# EAGLE library part ARDUINO_NANO (library Arduino_Nano)
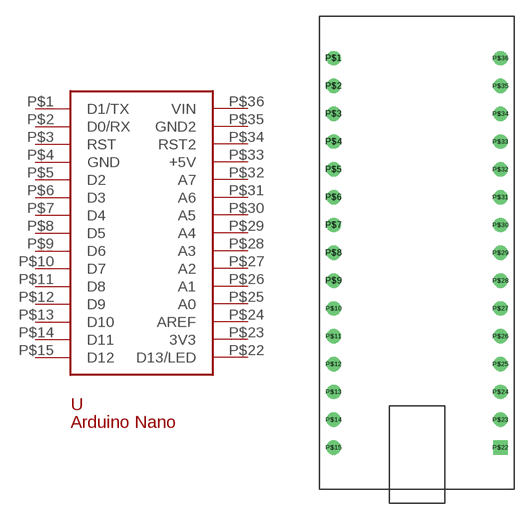
[diagram p0: symbol with the pads of ARDUINO_NANO; footprint ARDUINO_NANO]

Designator prefix -

## ARDUINO_NANOARDUINO_NANO  [ARDUINO_NANO]
P$1  D1/TX
P$2  D0/RX
P$3  RST
P$4  GND  pwr
P$5  D2
P$6  D3
P$7  D4
P$8  D5
P$9  D6
P$10  D7
P$11  D8
P$12  D9
P$13  D10
P$14  D11
P$15  D12
P$22  D13/LED
P$23  3V3  pwr
P$24  AREF
P$25  A0
P$26  A1
P$27  A2
P$28  A3
P$29  A4
P$30  A5
P$31  A6
P$32  A7
P$33  +5V  pwr
P$34  RST2
P$35  GND2  pwr
P$36  VIN

## Footprint ARDUINO_NANO (pad centres in mm)
drill 0.8: P$1 -7.62,16.51; P$2 -7.62,13.97; P$3 -7.62,11.43; P$4 -7.62,8.89; P$5 -7.62,6.35; P$6 -7.62,3.81; P$7 -7.62,1.27; P$8 -7.62,-1.27; P$9 -7.62,-3.81; P$10 -7.62,-6.35; P$11 -7.62,-8.89; P$12 -7.62,-11.43; P$13 -7.62,-13.97; P$14 -7.62,-16.51; P$15 -7.62,-19.05; P$23 7.62,-16.51; P$24 7.62,-13.97; P$25 7.62,-11.43; P$26 7.62,-8.89; P$27 7.62,-6.35; P$28 7.62,-3.81; P$29 7.62,-1.27; P$30 7.62,1.27; P$31 7.62,3.81; P$32 7.62,6.35; P$33 7.62,8.89; P$34 7.62,11.43; P$35 7.62,13.97; P$36 7.62,16.51
drill 0.8 square: P$22 7.62,-19.05